# EAGLE library part MCP2551-/SN (library IntegratedLib)
High Speed CAN Transciever
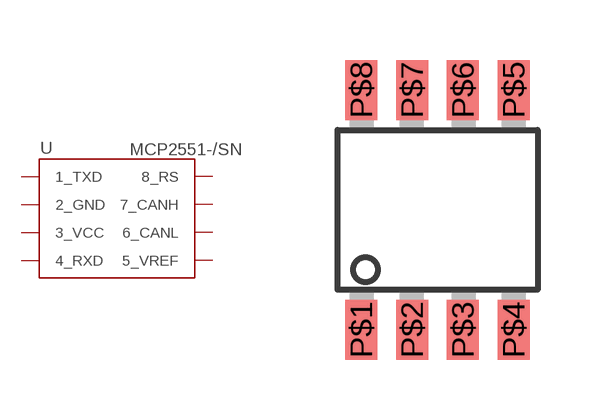
[diagram p13: symbol with the pads of SOIC-8; footprint SOIC-8]

Designator prefix U

## MCP2551-/SN (FABRICANTE: MICROCHIP; PARTNUMBER: MCP2551-/SN; TIPO: CIRCUITO INTEGRADO)  [SOIC-8]
P$1  1_TXD
P$2  2_GND
P$3  3_VCC
P$4  4_RXD
P$5  5_VREF
P$6  6_CANL
P$7  7_CANH
P$8  8_RS

## Footprint SOIC-8 (pad centres in mm)
smd 0.8 x 1.5: P$1 -1.905,-3; P$2 -0.635,-3; P$3 0.635,-3; P$4 1.905,-3; P$5 1.905,3; P$6 0.635,3; P$7 -0.635,3; P$8 -1.905,3